# Altium schematic symbol library Basic Board.SchLib: 1 symbol
Pins are listed as number, name and electrical type; pins without a type are passive.

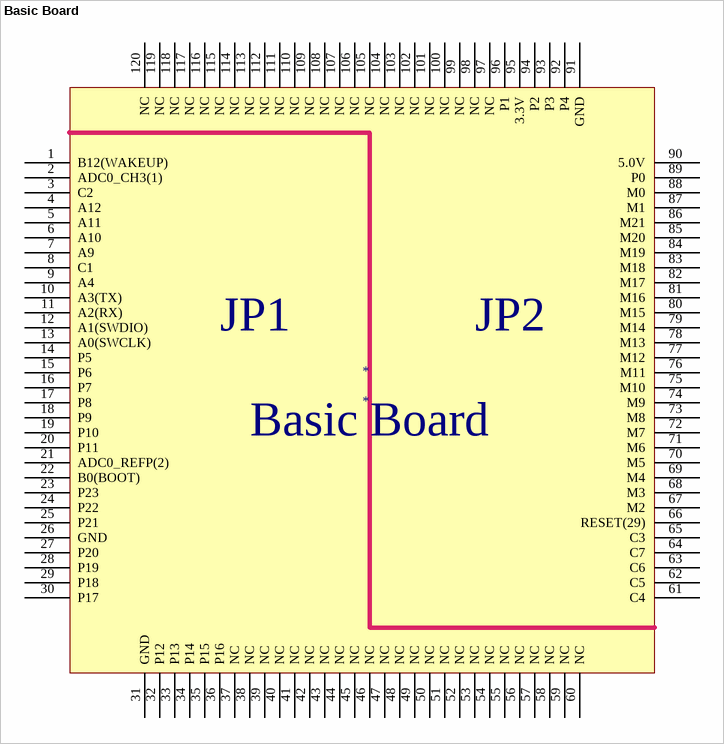
[diagram p0: symbol Basic Board]

## Basic Board
designator *
footprint Basic Board
footprint Basic Board
pins: 1 B12(WAKEUP), 2 ADC0_CH3(1), 3 C2, 4 A12, 5 A11, 6 A10, 7 A9, 8 C1, 9 A4, 10 A3(TX), 11 A2(RX), 12 A1(SWDIO), 13 A0(SWCLK), 14 P5, 15 P6, 16 P7, 17 P8, 18 P9, 19 P10, 20 P11, 21 ADC0_REFP(2), 22 B0(BOOT), 23 P23, 24 P22, 25 P21, 26 GND, 27 P20, 28 P19, 29 P18, 30 P17, 31 GND, 32 P12, 33 P13, 34 P14, 35 P15, 36 P16, 37 NC, 38 NC, 39 NC, 40 NC, 41 NC, 42 NC, 43 NC, 44 NC, 45 NC, 46 NC, 47 NC, 48 NC, 49 NC, 50 NC, 51 NC, 52 NC, 53 NC, 54 NC, 55 NC, 56 NC, 57 NC, 58 NC, 59 NC, 60 NC, 61 C4, 62 C5, 63 C6, 64 C7, 65 C3, 66 RESET(29), 67 M2, 68 M3, 69 M4, 70 M5, 71 M6, 72 M7, 73 M8, 74 M9, 75 M10, 76 M11, 77 M12, 78 M13, 79 M14, 80 M15, 81 M16, 82 M17, 83 M18, 84 M19, 85 M20, 86 M21, 87 M1, 88 M0, 89 P0, 90 5.0V, 91 GND, 92 P4, 93 P3, 94 P2, 95 3.3V, 96 P1, 97 NC, 98 NC, 99 NC, 100 NC, 101 NC, 102 NC, 103 NC, 104 NC, 105 NC, 106 NC, 107 NC, 108 NC, 109 NC, 110 NC, 111 NC, 112 NC, 113 NC, 114 NC, 115 NC, 116 NC, 117 NC, 118 NC, 119 NC, 120 NC
text: JP1; JP2